# Altium schematic symbol library MX470.SchLib: 1 symbol
Pins are listed as number, name and electrical type; pins without a type are passive.

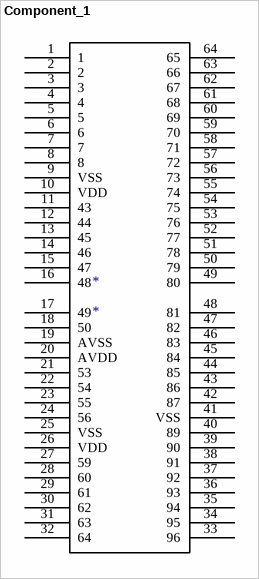
[diagram p0: symbol Component_1]

## Component_1
designator *
pins: 1, 2, 3, 4, 5, 6, 7, 8, 9 VSS, 10 VDD, 11 43, 12 44, 13 45, 14 46, 15 47, 16 48, 17 49, 18 50, 19 AVSS, 20 AVDD, 21 53, 22 54, 23 55, 24 56, 25 VSS, 26 VDD, 27 59, 28 60, 29 61, 30 62, 31 63, 32 64, 33 96, 34 95, 35 94, 36 93, 37 92, 38 91, 39 90, 40 89, 41 VSS, 42 87, 43 86, 44 85, 45 84, 46 83, 47 82, 48 81, 49 80, 50 79, 51 78, 52 77, 53 76, 54 75, 55 74, 56 73, 57 72, 58 71, 59 70, 60 69, 61 68, 62 67, 63 66, 64 65